# EAGLE library part STM32WLE5CC (library ICs)
Sub-GHz Wireless Microcontrollers. Arm Cortex-M4 @48 MHz with 256 Kbytes of Flash memory, 64 Kbytes of SRAM. LoRa, (G)FSK, (G)MSK, BPSK modulations. AES 256-bit. Multiprotocol System-on-Chip.
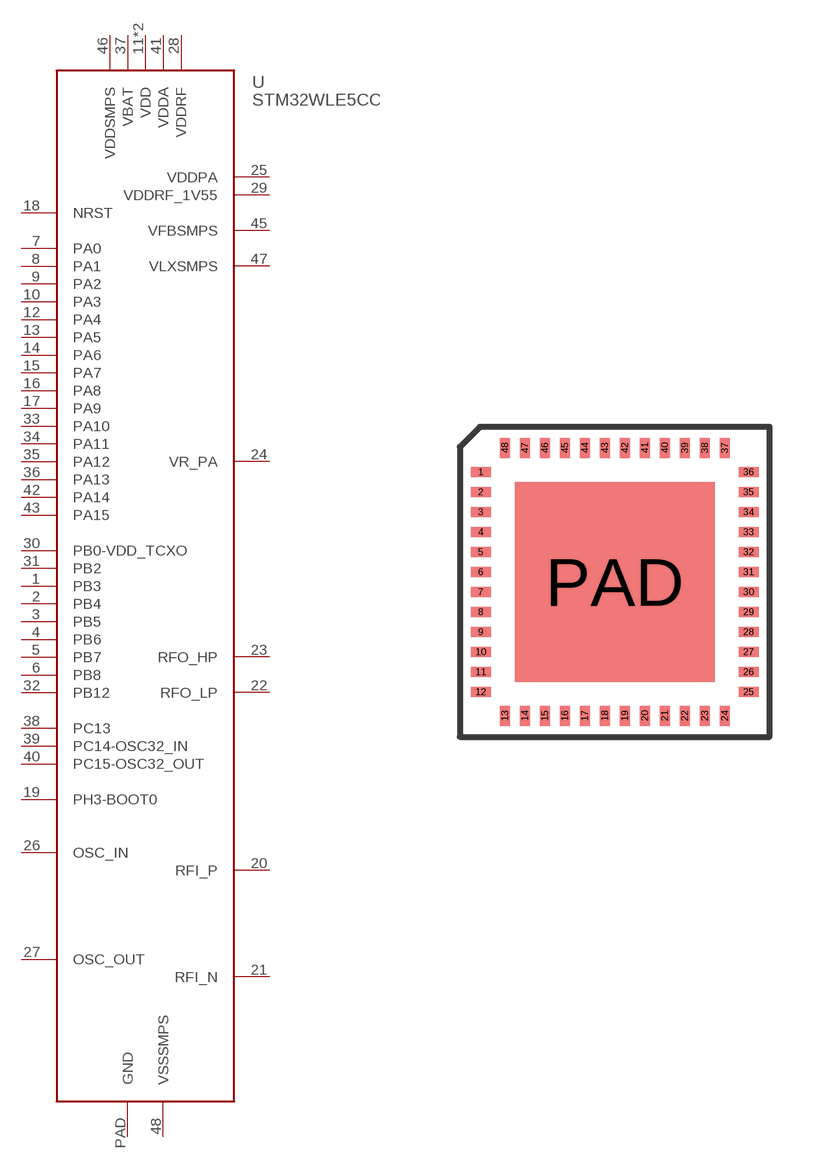
[diagram p279: symbol with the pads of QFN48_7X7; footprint QFN48_7X7]

Designator prefix U

## STM32WLE5CC (HEIGHT: 1; MOUSER: 511-STM32WLE5CCU7; PRICE_PER: 6.5; VALUE: STM32WLE5CC)  [QFN48_7X7]
1  PB3
2  PB4
3  PB5
4  PB6
5  PB7
6  PB8
7  PA0
8  PA1
9  PA2
10  PA3
11  VDD
12  PA4
13  PA5
14  PA6
15  PA7
16  PA8
17  PA9
18  NRST
19  PH3-BOOT0
20  RFI_P
21  RFI_N
22  RFO_LP
23  RFO_HP
24  VR_PA
25  VDDPA
26  OSC_IN
27  OSC_OUT
28  VDDRF
29  VDDRF_1V55
30  PB0-VDD_TCXO
31  PB2
32  PB12
33  PA10
34  PA11
35  PA12
36  PA13
37  VBAT
38  PC13
39  PC14-OSC32_IN
40  PC15-OSC32_OUT
41  VDDA
42  PA14
43  PA15
44  VDD
45  VFBSMPS
46  VDDSMPS
47  VLXSMPS
48  VSSSMPS
PAD  GND

## Footprint QFN48_7X7 (pad centres in mm)
smd 0.5 x 0.25: 1 -3.35,2.75; 2 -3.35,2.25; 3 -3.35,1.75; 4 -3.35,1.25; 5 -3.35,0.75; 6 -3.35,0.25; 7 -3.35,-0.25; 8 -3.35,-0.75; 9 -3.35,-1.25; 10 -3.35,-1.75; 11 -3.35,-2.25; 12 -3.35,-2.75; 25 3.35,-2.75; 26 3.35,-2.25; 27 3.35,-1.75; 28 3.35,-1.25; 29 3.35,-0.75; 30 3.35,-0.25; 31 3.35,0.25; 32 3.35,0.75; 33 3.35,1.25; 34 3.35,1.75; 35 3.35,2.25; 36 3.35,2.75
smd 0.25 x 0.5: 13 -2.75,-3.35; 14 -2.25,-3.35; 15 -1.75,-3.35; 16 -1.25,-3.35; 17 -0.75,-3.35; 18 -0.25,-3.35; 19 0.25,-3.35; 20 0.75,-3.35; 21 1.25,-3.35; 22 1.75,-3.35; 23 2.25,-3.35; 24 2.75,-3.35; 37 2.75,3.35; 38 2.25,3.35; 39 1.75,3.35; 40 1.25,3.35; 41 0.75,3.35; 42 0.25,3.35; 43 -0.25,3.35; 44 -0.75,3.35; 45 -1.25,3.35; 46 -1.75,3.35; 47 -2.25,3.35; 48 -2.75,3.35
smd 5 x 5: PAD 0,0